# Altium schematic symbol library 语音台灯.SchLib: 1 symbol
Pins are listed as number, name and electrical type; pins without a type are passive.

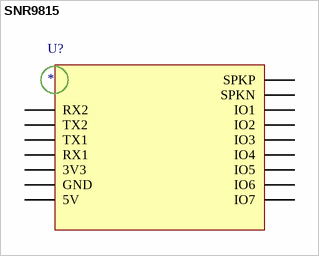
[diagram p0: symbol SNR9815]

## SNR9815
designator U?
pins: 1 RX2, 2 TX2, 3 TX1, 4 RX1, 5 3V3, 6 GND, 7 5V, 8 IO7, 9 IO6, 10 IO5, 11 IO4, 12 IO3, 13 IO2, 14 IO1, 15 SPKN, 16 SPKP